# Altium footprint library Sprite.PCBLIB: 15 footprints
Each footprint in its own frame and in the unit in brackets; x right, y up, seen from the top. Pads: shape width x height; smd on the part's side, far side on the other; paste and mask are expansions set on the pad; w line width, h text height; cw(c..) or ccw(c..) is an arc to the next point about the centre after c.
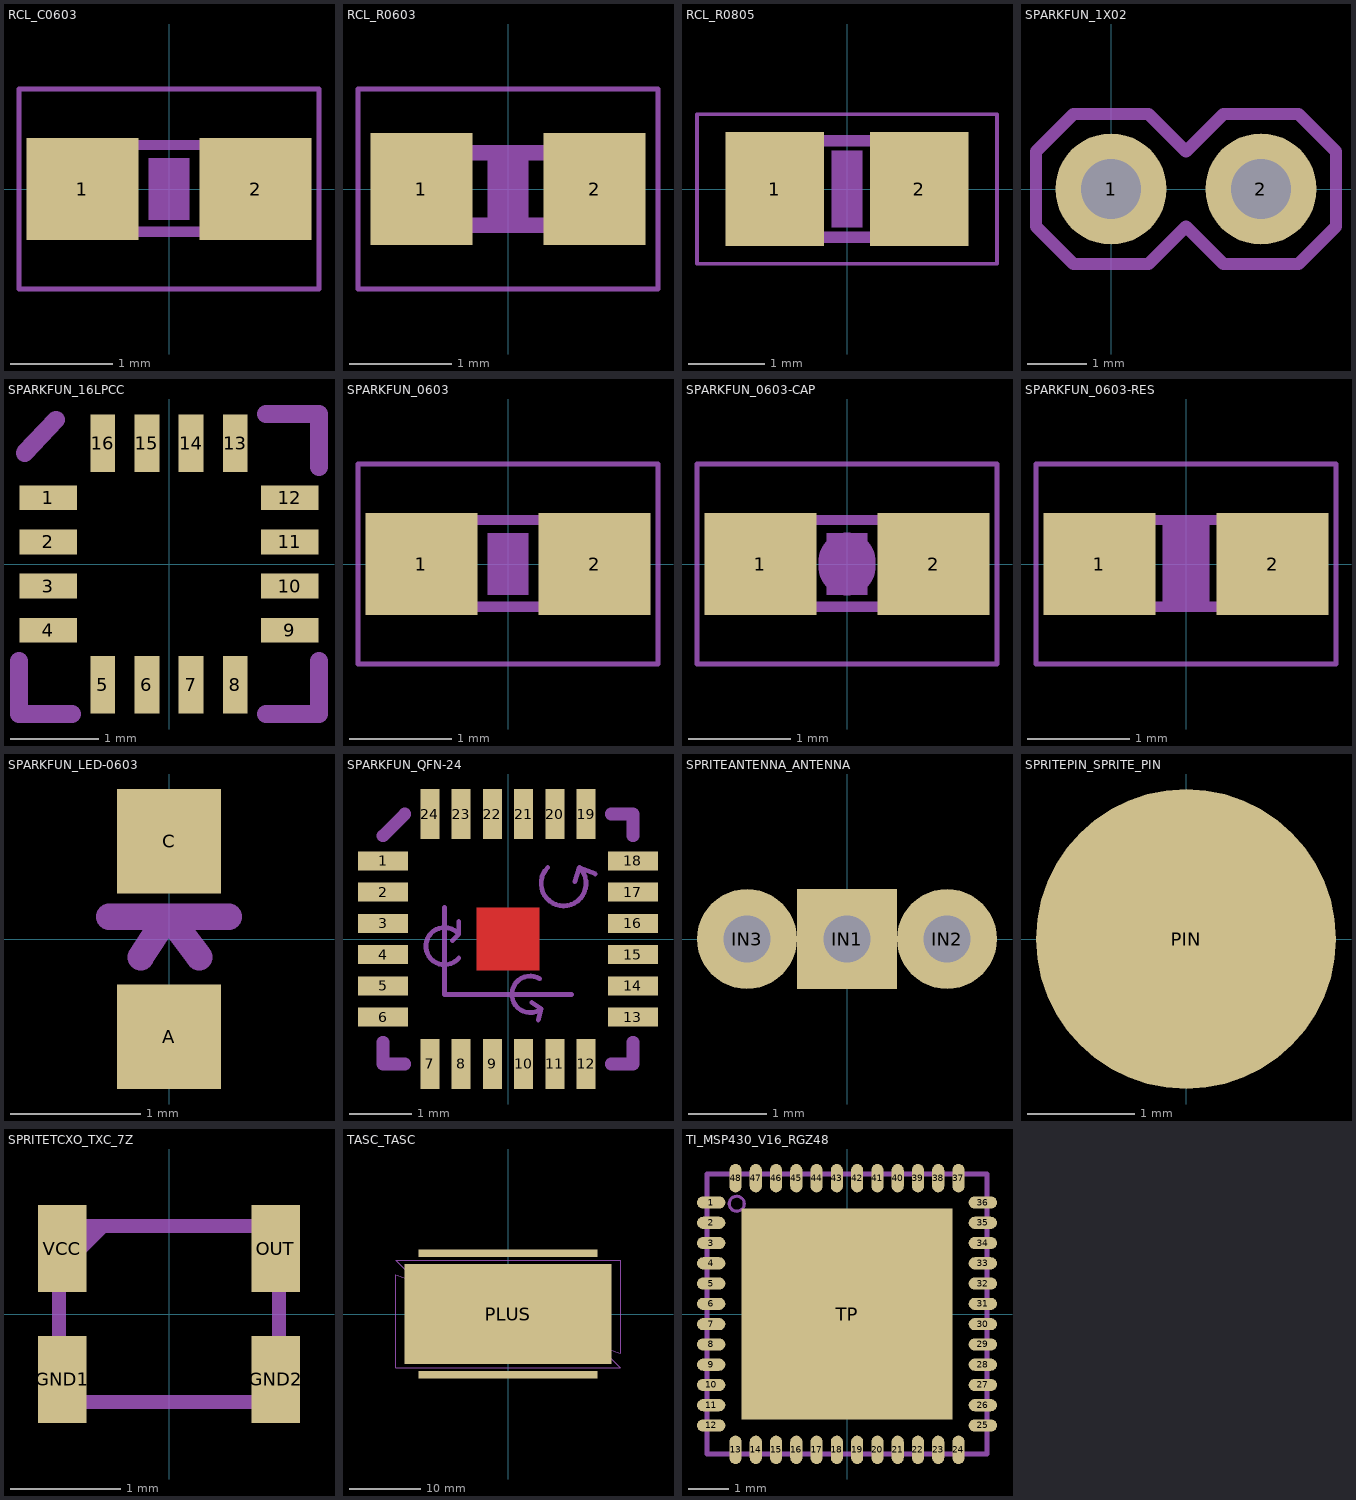
[diagram p0: the footprints below, top view; thin cyan lines are the x and y axes]

## RCL_C0603 [mm]
pads (2):
  rect 1.1x1 smd: 1(-0.85,0) 2(0.85,0)
Mechanical 8:
  region: -0.838,-0.47 -0.838,0.48 -0.338,0.48 -0.338,-0.47
  region: 0.33,-0.47 0.33,0.48 0.83,0.48 0.83,-0.47
  lines w0.102: -0.356,-0.419 0.356,-0.419 ; -0.356,0.432 0.356,0.432
Mechanical 30:
  region: -0.2,-0.3 -0.2,0.3 0.2,0.3 0.2,-0.3
Mech34:
  lines w0.051: -1.473,-0.983 1.473,-0.983 1.473,0.983 -1.473,0.983 -1.473,-0.983

## RCL_R0603 [mm]
pads (2):
  rect 1x1.1 smd: 1(-0.85,0) 2(0.85,0)
Mechanical 8:
  region: 0.432,-0.432 0.432,0.432 0.838,0.432 0.838,-0.432
  region: -0.838,-0.432 -0.838,0.432 -0.432,0.432 -0.432,-0.432
  lines w0.152: -0.432,-0.356 0.432,-0.356 ; -0.432,0.356 0.432,0.356
Mechanical 30:
  region: -0.2,-0.4 -0.2,0.4 0.2,0.4 0.2,-0.4
Mech34:
  lines w0.051: -1.473,-0.983 1.473,-0.983 1.473,0.983 -1.473,0.983 -1.473,-0.983

## RCL_R0805 [mm]
pads (2):
  rect 1.3x1.5 smd: 1(-0.95,0) 2(0.95,0)
Mechanical 8:
  region: 0.406,-0.699 0.406,0.702 1.056,0.702 1.056,-0.699
  region: -1.067,-0.699 -1.067,0.702 -0.417,0.702 -0.417,-0.699
  lines w0.152: -0.41,-0.635 0.41,-0.635 ; -0.41,0.635 0.41,0.635
Mechanical 30:
  region: -0.2,-0.5 -0.2,0.5 0.2,0.5 0.2,-0.5
Mech34:
  lines w0.051: -1.973,-0.983 1.973,-0.983 1.973,0.983 -1.973,0.983 -1.973,-0.983

## SPARKFUN_1X02 [mil]
pads (2):
  round 74 hole 40: 1(0,0) 2(100,0)
Mechanical 2:
  lines w8: -50,-25 -50,25 -25,50 25,50 50,25 75,50 125,50 150,25 150,-25 125,-50 75,-50 50,-25 25,-50 -25,-50 -50,-25
Mechanical 8:
  region: 90,-10 90,10 110,10 110,-10
  region: -10,-10 -10,10 10,10 10,-10

## SPARKFUN_16LPCC [mm]
pads (16):
  rect 0.65x0.28 smd: 1(-1.37,0.75) 2(-1.37,0.25) 3(-1.37,-0.25) 4(-1.37,-0.75) 9(1.37,-0.75) 10(1.37,-0.25) 11(1.37,0.25) 12(1.37,0.75)
  rect 0.28x0.65 smd: 5(-0.75,-1.37) 6(-0.25,-1.37) 7(0.25,-1.37) 8(0.75,-1.37) 13(0.75,1.37) 14(0.25,1.37) 15(-0.25,1.37) 16(-0.75,1.37)
Mechanical 2:
  lines w0.203: -1.7,-1.1 -1.7,-1.7 -1.1,-1.7 ; -1.635,1.26 -1.28,1.635 ; 1.1,-1.7 1.7,-1.7 1.7,-1.1 ; 1.1,1.7 1.7,1.7 1.7,1.1

## SPARKFUN_0603 [mm]
pads (2):
  rect 1.1x1 smd: 1(-0.85,0) 2(0.85,0)
Mechanical 8:
  region: -0.838,-0.47 -0.838,0.48 -0.338,0.48 -0.338,-0.47
  region: 0.33,-0.47 0.33,0.48 0.83,0.48 0.83,-0.47
  lines w0.102: -0.356,-0.419 0.356,-0.419 ; -0.356,0.432 0.356,0.432
Mechanical 30:
  region: -0.2,-0.3 -0.2,0.3 0.2,0.3 0.2,-0.3
Mech34:
  lines w0.051: -1.473,-0.983 1.473,-0.983 1.473,0.983 -1.473,0.983 -1.473,-0.983

## SPARKFUN_0603-CAP [mm]
pads (2):
  rect 1.1x1 smd: 1(-0.85,0) 2(0.85,0)
Mechanical 2:
  lines w0.559: 0,-0.03 0,0.03
Mechanical 8:
  region: -0.838,-0.47 -0.838,0.48 -0.338,0.48 -0.338,-0.47
  region: 0.33,-0.47 0.33,0.48 0.83,0.48 0.83,-0.47
  lines w0.102: -0.356,-0.419 0.356,-0.419 ; -0.356,0.432 0.356,0.432
Mechanical 30:
  region: -0.2,-0.3 -0.2,0.3 0.2,0.3 0.2,-0.3
Mech34:
  lines w0.051: -1.473,-0.983 1.473,-0.983 1.473,0.983 -1.473,0.983 -1.473,-0.983

## SPARKFUN_0603-RES [mm]
pads (2):
  rect 1.1x1 smd: 1(-0.85,0) 2(0.85,0)
Mechanical 2:
  region: -0.229,-0.381 -0.229,0.381 0.229,0.381 0.229,-0.381
Mechanical 8:
  region: -0.838,-0.47 -0.838,0.48 -0.338,0.48 -0.338,-0.47
  region: 0.33,-0.47 0.33,0.48 0.83,0.48 0.83,-0.47
  lines w0.102: -0.356,-0.419 0.356,-0.419 ; -0.356,0.432 0.356,0.432
Mechanical 30:
  region: -0.2,-0.3 -0.2,0.3 0.2,0.3 0.2,-0.3
Mech34:
  lines w0.051: -1.473,-0.983 1.473,-0.983 1.473,0.983 -1.473,0.983 -1.473,-0.983

## SPARKFUN_LED-0603 [mil]
pads (2):
  rect 31.5x31.5 smd: A(0,-29.53) C(0,29.53)
Mechanical 2:
  lines w8: -18.11,6.69 0,6.69 ; -8.6,-5.51 -1,6.09 ; 9.2,-5.51 0,6.69 ; 18.11,6.69 0,6.69

## SPARKFUN_QFN-24 [mm]
pads (24):
  rect 0.8x0.3 smd: 1(-2,1.25) 2(-2,0.75) 3(-2,0.25) 4(-2,-0.25) 5(-2,-0.75) 6(-2,-1.25) 13(2,-1.25) 14(2,-0.75) 15(2,-0.25) 16(2,0.25) 17(2,0.75) 18(2,1.25)
  rect 0.3x0.8 smd: 7(-1.25,-2) 8(-0.75,-2) 9(-0.25,-2) 10(0.25,-2) 11(0.75,-2) 12(1.25,-2) 19(1.25,2) 20(0.75,2) 21(0.25,2) 22(-0.25,2) 23(-0.75,2) 24(-1.25,2)
Top Layer:
  region: -0.5,-0.5 -0.5,0.5 0.5,0.5 0.5,-0.5
Top Solder:
  region: -0.5,-0.5 -0.5,0.5 0.5,0.5 0.5,-0.5
Mechanical 2:
  lines w0.203: -2,-1.65 -2,-2 -1.65,-2 ; -2,1.65 -1.65,2 ; 1.65,-2 2,-2 2,-1.65 ; 1.65,2 2,2 2,1.65
Mechanical 8:
  lines w0.076: -1.016,0.508 -1.016,-0.889 1.016,-0.889 ; -0.889,-0.025 -0.787,0.076 ; -0.787,-0.305 cw(c-1.016,-0.114) -0.787,0.076 ; -0.787,0.279 -0.787,0.076 ; 0.381,-1.016 0.533,-1.118 ; 0.483,-1.295 0.533,-1.118 ; 0.508,-0.635 ccw(c0.356,-0.885) 0.533,-1.118 ; 0.635,1.143 ccw(c0.889,0.889) 1.143,1.143 ; 1.067,0.914 1.143,1.143 ; 1.397,1.041 1.143,1.143

## SPRITEANTENNA_ANTENNA [mm]
pads (3):
  rect 1.27x1.27 hole 0.6: IN1(0,0)
  round 1.27 hole 0.6: IN2(1.27,0) IN3(-1.27,0)

## SPRITEPIN_SPRITE_PIN [mil]
pads (1):
  rrect100% 110x110 smd: PIN(0,0)

## SPRITETCXO_TXC_7Z [mm]
pads (4):
  rect 0.44x0.79 smd: GND1(-0.97,-0.595) GND2(0.97,-0.595) OUT(0.97,0.595) VCC(-0.97,0.595)
Mechanical 2:
  lines w0.127: -1,0.4 -1,-0.8 1,-0.8 1,0.8 -0.6,0.8 ; -1,0.4 -1,0.8 -0.6,0.8 ; -1,0.4 -0.6,0.8

## TASC_TASC [mm]
pads (3):
  rect 25x1 smd: MINUS1(0,8.5) MINUS2(0,-8.5)
  rect 29x14 smd: PLUS(0,0)
Mechanical 2:
  lines w0.127: -15.75,-7.5 -15.75,5.5 12.75,-4.5 15.75,-7.5 -15.75,-7.5 ; -15.75,7.5 15.75,7.5 15.75,-5.5 -12.75,4.5 -15.75,7.5

## TI_MSP430_V16_RGZ48 [mm]
pads (49):
  rrect100% 0.7x0.3 smd: 1(-3.35,2.75) 2(-3.35,2.25) 3(-3.35,1.75) 4(-3.35,1.25) 5(-3.35,0.75) 6(-3.35,0.25) 7(-3.35,-0.25) 8(-3.35,-0.75) 9(-3.35,-1.25) 10(-3.35,-1.75) 11(-3.35,-2.25) 12(-3.35,-2.75) 25(3.35,-2.75) 26(3.35,-2.25) 27(3.35,-1.75) 28(3.35,-1.25) 29(3.35,-0.75) 30(3.35,-0.25) 31(3.35,0.25) 32(3.35,0.75) 33(3.35,1.25) 34(3.35,1.75) 35(3.35,2.25) 36(3.35,2.75)
  rrect100% 0.3x0.7 smd: 13(-2.75,-3.35) 14(-2.25,-3.35) 15(-1.75,-3.35) 16(-1.25,-3.35) 17(-0.75,-3.35) 18(-0.25,-3.35) 19(0.25,-3.35) 20(0.75,-3.35) 21(1.25,-3.35) 22(1.75,-3.35) 23(2.25,-3.35) 24(2.75,-3.35) 37(2.75,3.35) 38(2.25,3.35) 39(1.75,3.35) 40(1.25,3.35) 41(0.75,3.35) 42(0.25,3.35) 43(-0.25,3.35) 44(-0.75,3.35) 45(-1.25,3.35) 46(-1.75,3.35) 47(-2.25,3.35) 48(-2.75,3.35)
  rect 5.2x5.2 smd: TP(0,0)
Mechanical 2:
  circle w0.075: c-2.72,2.72 r0.185
  lines w0.127: -3.45,-3.45 -3.45,3.45 3.45,3.45 3.45,-3.45 -3.45,-3.45